# Altium footprint library MCX.PcbLib: 1 footprints
Each footprint in its own frame and in the unit in brackets; x right, y up, seen from the top. Pads: shape width x height; smd on the part's side, far side on the other; paste and mask are expansions set on the pad; w line width, h text height; cw(c..) or ccw(c..) is an arc to the next point about the centre after c.
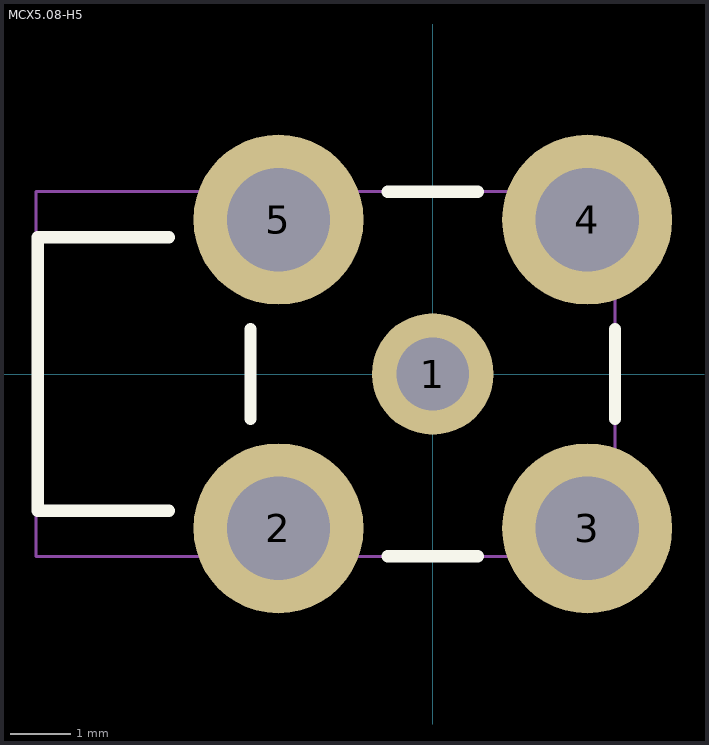
[diagram p0: the footprint, top view; thin cyan lines are the x and y axes]

## MCX5.08-H5 [mm] "Connector; RF Coaxial, MCX, Thru-Hole; 5 Position; Right-Angle"
height 5.85
pads (5):
  round 2 hole 1.2: 1(0,0)
  round 2.8 hole 1.7: 2(-2.54,-2.54) 3(2.54,-2.54) 4(2.54,2.54) 5(-2.54,2.54)
Top Overlay:
  lines w0.2: -4.34,-2.25 -6.5,-2.25 -6.5,2.25 -4.34,2.25 ; -3,-0.74 -3,0.74 ; -0.74,-3 0.74,-3 ; -0.74,3 0.74,3 ; 3,-0.74 3,0.74
Mechanical 13:
  lines w0.05: -6.533,-3 -6.533,3 2.997,3 2.997,-3 -6.533,-3
3D body: height 6.31, standoff -3.69, extent -6.533,-3 2.997,3.005